# Altium footprint library RadYaab_v11.PcbLib: 44 footprints (part 3 of 3)
Each footprint in its own frame and in the unit in brackets; x right, y up, seen from the top. Pads: shape width x height; smd on the part's side, far side on the other; paste and mask are expansions set on the pad; w line width, h text height; cw(c..) or ccw(c..) is an arc to the next point about the centre after c.
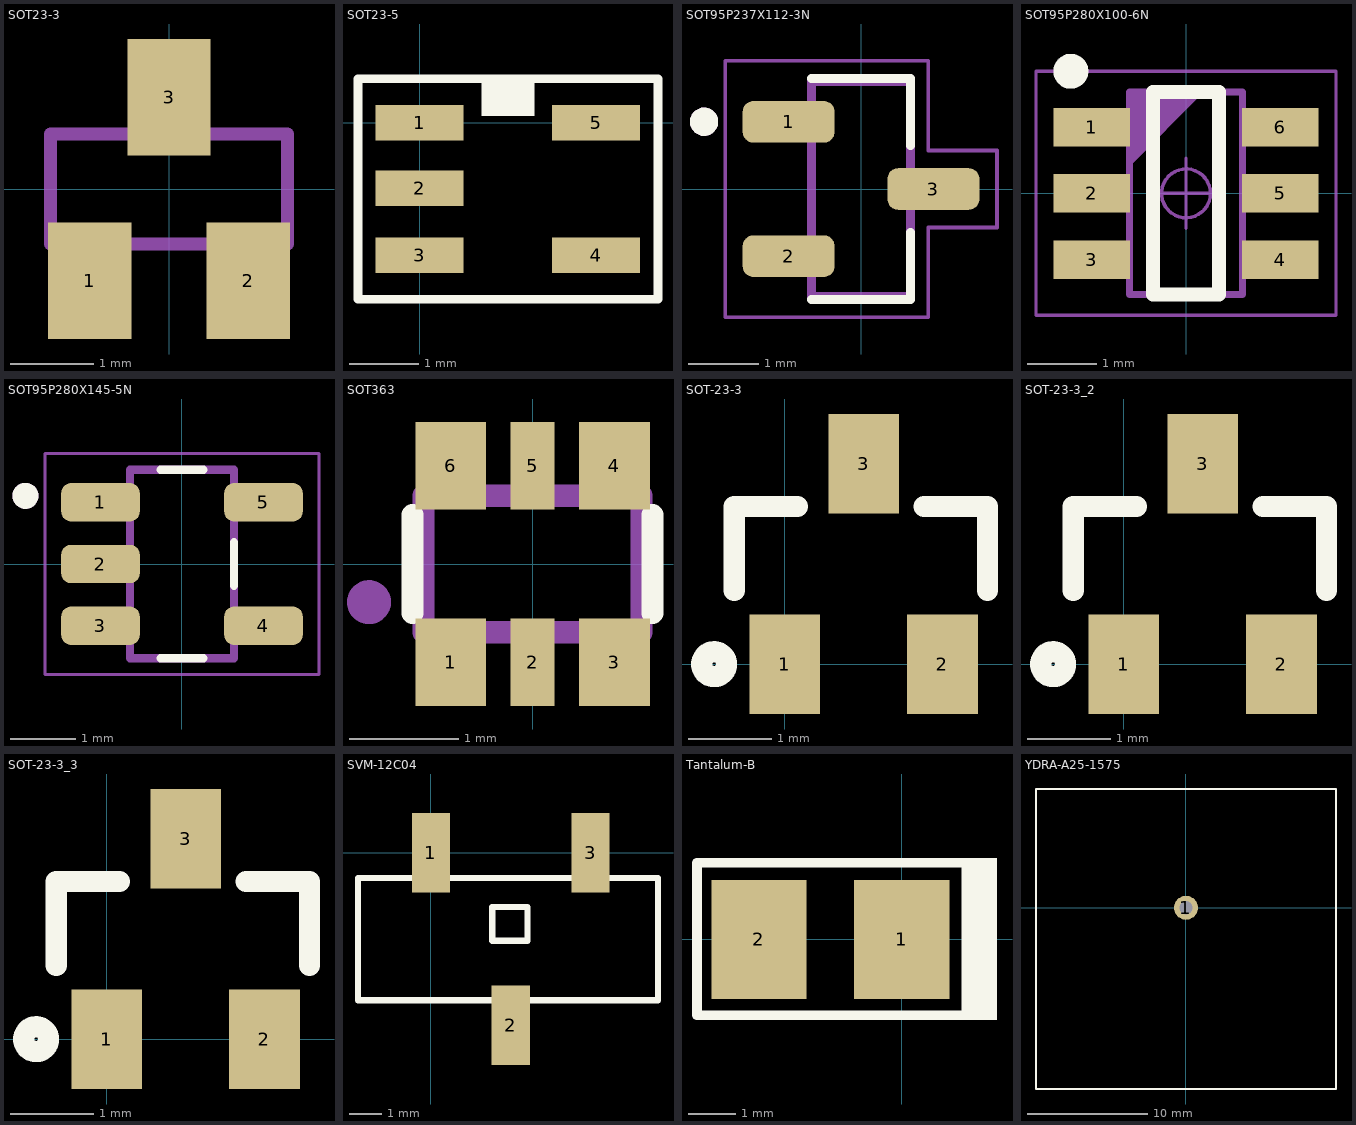
[diagram p2: the footprints below, top view; thin cyan lines are the x and y axes]

## SOT23-3 [mm]
height 1.1
pads (3):
  rect 1x1.4 smd: 1(-0.95,-1.1) 2(0.95,-1.1) 3(0,1.1)
Mechanical 13:
  region: -0.711,-1.297 -1.17,-1.297 -1.17,-0.711 -0.711,-0.711
  region: 1.168,-1.297 0.712,-1.297 0.712,-0.711 1.168,-0.711
  region: 0.229,0.712 -0.229,0.712 -0.229,1.295 0.229,1.295
  lines w0.152: -1.422,-0.66 -1.422,0.66 1.422,0.66 1.422,-0.66 -1.422,-0.66
3D body "step_temp.STEP": height 1.25, standoff 0, extent -1.4,-1.45 1.4,1.45

## SOT23-5 [mil]
height 251.97
pads (5):
  rect 50x20 smd: 1(0,0) 2(0,-37) 3(0,-75) 4(100,-75) 5(100,0)
Top Overlay:
  rectangle: 35,3.94 65,23.63
  lines w5: -34.88,11.02 -34.88,12.02 ; -34.88,15.02 -34.88,25.02 ; -20.88,25.02 -18.88,25.02 ; -19.88,25.02 -34.88,25.02 ; -34.88,25.02 -34.88,-99.98 135.12,-99.98 135.12,25.02 -34.88,25.02
3D body: height 52.18, standoff 51.18, extent 31.02,3.02 40.98,13
3D body: height 8.66, standoff 0, extent 89,-8 98,8
3D body: height 24.41, standoff 0, extent 82.5,-8 91.5,8
3D body: height 24.41, standoff 15.75, extent 76,-8 83,8
3D body: height 8.66, standoff 0, extent 89,-83 98,-67
3D body: height 24.41, standoff 0, extent 82.5,-83 91.5,-67
3D body: height 24.41, standoff 15.75, extent 76,-83 83,-67
3D body: height 8.66, standoff 0, extent 2,-83 11,-67
3D body: height 24.41, standoff 0, extent 8.5,-83 17.5,-67
3D body: height 24.41, standoff 15.75, extent 17,-83 24,-67
3D body: height 8.66, standoff 0, extent 2,-45 11,-29
3D body: height 24.41, standoff 0, extent 8.5,-45 17.5,-29
3D body: height 24.41, standoff 15.75, extent 17,-45 24,-29
3D body: height 24.41, standoff 15.75, extent 17,-8 24,8
3D body: height 24.41, standoff 0, extent 8.5,-8 17.5,8
3D body: height 8.66, standoff 0, extent 2,-8 11,8
3D body: height 51.18, standoff 3.94, extent 24,-95 76,20

## SOT95P237X112-3N [mm]
height 1.1
pads (3):
  rrect50% 1.3x0.59 smd: 1(-1.025,0.95) 2(-1.025,-0.95) 3(1.025,0)
Top Overlay:
  circle w0.2: c-2.222,0.953 r0.1
  lines w0.127: -0.7,-1.565 0.7,-1.565 0.7,-0.615 ; -0.7,1.565 0.7,1.565 0.7,0.615
Mechanical 13:
  circle w0.2: c-2.222,0.953 r0.1
  lines w0.127: -0.7,-1.52 -0.7,1.52 0.7,1.52 0.7,-1.52 -0.7,-1.52
Mechanical 15:
  lines w0.05: -1.925,-1.815 0.95,-1.815 0.95,-0.545 1.925,-0.545 1.925,0.545 0.95,0.545 0.95,1.815 -1.925,1.815 -1.925,-1.815
3D body "step_temp.STEP": height 1.12, standoff 0, extent -1.255,-1.46 1.255,1.46

## SOT95P280X100-6N [mm] "SOT23, 0.95mm pitch; 6 pin, 1.625mm W X 2.90mm L X 1.00mm H body, IPC Medium Density"
height 1
pads (6):
  rect 1.1x0.55 smd: 1(-1.35,0.95) 2(-1.35,0) 3(-1.35,-0.95) 4(1.35,-0.95) 5(1.35,0) 6(1.35,0.95)
Top Overlay:
  circle w0.25: c-1.65,1.75 r0.125
  lines w0.2: -0.475,-1.45 -0.475,1.45 0.475,1.45 0.475,-1.45 -0.475,-1.45
Mechanical 14:
  lines w0.1: -0.812,0.45 0.188,1.45 ; -0.812,0.55 0.088,1.45 ; -0.812,0.65 -0.012,1.45 ; -0.812,0.75 -0.112,1.45 ; -0.812,0.85 -0.212,1.45 ; -0.812,0.95 -0.312,1.45 ; -0.812,1.05 -0.412,1.45 ; -0.812,1.15 -0.512,1.45 ; -0.812,1.25 -0.612,1.45 ; -0.812,1.35 -0.712,1.45 ; -0.812,-1.45 -0.812,1.45 0.812,1.45 0.812,-1.45 -0.812,-1.45
Mechanical 15:
  circle w0.05: c0,0 r0.35
  lines w0.05: -0.5,0 0.5,0 ; 0,-0.5 0,0.5 ; -2.15,-1.75 -2.15,1.75 2.15,1.75 2.15,-1.75 -2.15,-1.75
3D body "SOT95P280X100-6N.stp": height 1, standoff 0, extent -1.4,-1.5 1.4,1.5

## SOT95P280X145-5N [mm]
height 1.1
pads (5):
  rrect50% 1.21x0.59 smd: 1(-1.255,0.95) 2(-1.255,0) 3(-1.255,-0.95) 4(1.255,-0.95) 5(1.255,0.95)
Top Overlay:
  circle w0.2: c-2.41,1.05 r0.1
  lines w0.127: -0.33,-1.45 0.33,-1.45 ; -0.33,1.45 0.33,1.45 ; 0.8,-0.335 0.8,0.335
Mechanical 13:
  circle w0.2: c-2.41,1.05 r0.1
  lines w0.127: -0.8,-1.45 -0.8,1.45 0.8,1.45 0.8,-1.45 -0.8,-1.45
Mechanical 15:
  lines w0.05: -2.11,-1.7 2.11,-1.7 2.11,1.7 -2.11,1.7 -2.11,-1.7
3D body "step_temp.STEP": height 1.45, standoff 0, extent -1.4,-1.45 1.4,1.45

## SOT363 [mm] "SOT363"
height 7
pads (6):
  rect 0.65x0.8 smd: 1(-0.75,-0.9) 3(0.75,-0.9) 4(0.75,0.9) 6(-0.75,0.9)
  rect 0.4x0.8 smd: 2(0,-0.9) 5(0,0.9)
Top Overlay:
  lines w0.203: -1.1,-0.45 -1.1,0.45 ; 1.1,-0.45 1.1,0.45
Mechanical 8:
  region: -0.125,-1.05 -0.125,-0.7 0.125,-0.7 0.125,-1.05
  region: -0.775,-1.05 -0.775,-0.7 -0.525,-0.7 -0.525,-1.05
  region: 0.525,-1.05 0.525,-0.7 0.775,-0.7 0.775,-1.05
  region: -0.775,0.7 -0.775,1.05 -0.525,1.05 -0.525,0.7
  region: -0.125,0.7 -0.125,1.05 0.125,1.05 0.125,0.7
  region: 0.525,0.7 0.525,1.05 0.775,1.05 0.775,0.7
  lines w0.203: -1,-0.625 1,-0.625 1,0.625 -1,0.625 -1,-0.625
Mechanical 16:
  circle w0.203: c-1.5,-0.35 r0.1

## SOT-23-3 [mm]
height 1.35
pads (3):
  rect 0.85x1.2 smd: 1(0,0) 2(1.9,0) 3(0.95,2.413)
Top Overlay:
  circle w0.254: c-0.85,0 r0.15
  lines w0.254: -0.608,0.889 -0.608,1.9 0.154,1.9 ; 1.678,1.9 2.44,1.9 2.44,0.889
3D body "User Library-SOT23-2.STEP": height 1.08, standoff 0, extent -0.55,-0.2 2.45,2.44

## SOT-23-3_2 [mm]
pads (3):
  rect 0.85x1.2 smd: 1(0,0) 2(1.9,0) 3(0.95,2.413)
Top Overlay:
  circle w0.254: c-0.85,0 r0.15
  lines w0.254: -0.608,0.889 -0.608,1.9 0.154,1.9 ; 1.678,1.9 2.44,1.9 2.44,0.889
3D body "User Library-SOT23-2.STEP": height 1.08, standoff 0, extent -0.55,-0.2 2.45,2.44

## SOT-23-3_3 [mm]
pads (3):
  rect 0.85x1.2 smd: 1(0,0) 2(1.9,0) 3(0.95,2.413)
Top Overlay:
  circle w0.254: c-0.85,0 r0.15
  lines w0.254: -0.608,0.889 -0.608,1.9 0.154,1.9 ; 1.678,1.9 2.44,1.9 2.44,0.889
3D body "User Library-SOT23-2.STEP": height 1.08, standoff 0, extent -0.55,-0.2 2.45,2.44

## SVM-12C04 [mm] "Slide Switch SPDT Surface Mount, Vertical Push"
height 1.4
pads (3):
  rect 1.2x2.5 smd: 1(0,0) 2(2.5,-5.4) 3(5,0)
Top Overlay:
  lines w0.2: -2.286,-4.623 -2.286,-0.787 7.112,-0.787 7.112,-4.623 -2.286,-4.623 ; 1.922,-2.749 3.022,-2.749 3.022,-1.699 1.922,-1.699 1.922,-2.749

## Tantalum-B [mm] "1210 (3528 Metric) Tantalum Capacitor"
height 1.1
pads (2):
  rect 2x2.5 smd: 1(0,0) 2(-3,0)
Top Overlay:
  rectangle: 1.255,-1.69 2,1.71
  lines w0.2: 1.355,1.61 -3.145,1.61 -4.3,1.61 -4.3,-1.59 -2.545,-1.59 1.9,-1.59
3D body "User Library-Tantalum Capacitor Case B.STEP": height 2.09, standoff -0.01, extent -3.39,-1.41 0.3,1.41

## YDRA-A25-1575 [mm] "25x25mm GPS ceramic patch antenna"
height 6.4
pads (1):
  round 2 hole 1.1: 1(0,0)
Top Overlay:
  lines w0.2: -12.5,-15.1 12.5,-15.1 12.5,9.9 -12.5,9.9 -12.5,-15.1
3D body "User Library-YDRA-A25-1575.step": height 5, standoff -3, extent -12.5,-15.1 12.5,9.9